# EAGLE library part PINHD-1X9 (library pinhead)
PIN HEADER
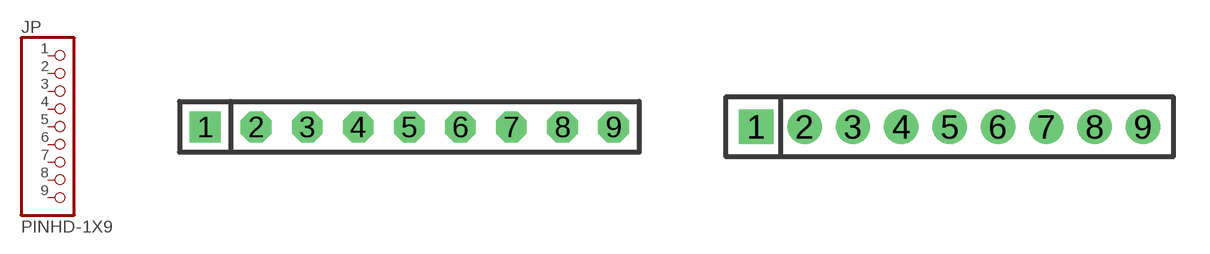
[diagram p34: symbol with the pads of 1X09; footprints 1X09, 1X09M]

Designator prefix JP

## PINHD-1X9  [1X09]
1  1  pas
2  2  pas
3  3  pas
4  4  pas
5  5  pas
6  6  pas
7  7  pas
8  8  pas
9  9  pas

## PINHD-1X9M  [1X09M]
Pads as for 1X09

## Footprint 1X09 (pad centres in mm)
PIN HEADER - 0.1"
drill 1.016 square: 1 -10.16,0
drill 1.016 octagon: 2 -7.62,0; 3 -5.08,0; 4 -2.54,0; 5 0,0; 6 2.54,0; 7 5.08,0; 8 7.62,0; 9 10.16,0

## Footprint 1X09M (pad centres in mm)
PIN HEADER - 2MM"
drill 0.914 square: 1 -8,0
drill 0.914: 2 -6,0; 3 -4,0; 4 -2,0; 5 0,0; 6 2,0; 7 4,0; 8 6,0; 9 8,0